# EAGLE library part WM_BC832 (library parts_v25)
Micro BLE 5 Module: Nordic nRF52832 SoC with chip antenna and castellated pins
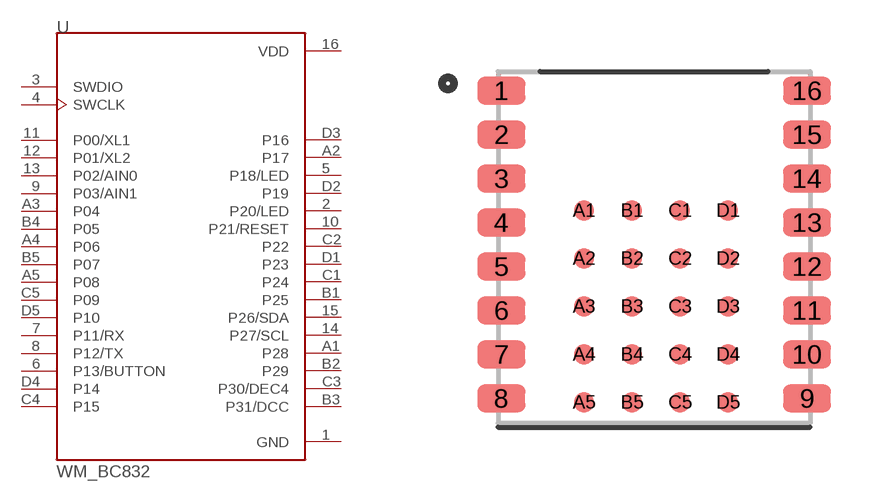
[diagram p4: symbol with the pads of XCVR_BC832; footprint XCVR_BC832]

Designator prefix U

## WM_BC832 (AVAILABILITY: Unavailable; DESCRIPTION: Micro BLE 5 Module: Nordic nRF52832 SoC with chip antenna and castellated pins; MF: Fanstel Corp.; MP: BC832; PACKAGE: SMD-16 Fanstel; PRICE: None)  [XCVR_BC832]
1  GND  pwr
2  P20/LED
3  SWDIO
4  SWCLK
5  P18/LED
6  P13/BUTTON
7  P11/RX
8  P12/TX
9  P03/AIN1
10  P21/RESET
11  P00/XL1
12  P01/XL2
13  P02/AIN0
14  P27/SCL
15  P26/SDA
16  VDD  pwr
A1  P28
A2  P17
A3  P04
A4  P06
A5  P08
B1  P25
B2  P29
B3  P31/DCC
B4  P05
B5  P07
C1  P24
C2  P22
C3  P30/DEC4
C4  P15
C5  P09
D1  P23
D2  P19
D3  P16
D4  P14
D5  P10

## Footprint XCVR_BC832 (pad centres in mm)
smd 1.19 x 0.69: 1 -3.82,3.918; 2 -3.82,2.818; 3 -3.82,1.718; 4 -3.82,0.618; 5 -3.82,-0.482; 6 -3.82,-1.582; 7 -3.82,-2.682; 8 -3.82,-3.782; 9 3.82,-3.782; 10 3.82,-2.682; 11 3.82,-1.582; 12 3.82,-0.482; 13 3.82,0.618; 14 3.82,1.718; 15 3.82,2.818; 16 3.82,3.918
smd 0.5 x 0.5: A1 -1.75,0.919; A2 -1.75,-0.281; A3 -1.75,-1.481; A4 -1.75,-2.681; A5 -1.75,-3.881; B1 -0.55,0.919; B2 -0.55,-0.281; B3 -0.55,-1.481; B4 -0.55,-2.681; B5 -0.55,-3.881; C1 0.65,0.919; C2 0.65,-0.281; C3 0.65,-1.481; C4 0.65,-2.681; C5 0.65,-3.881; D1 1.85,0.919; D2 1.85,-0.281; D3 1.85,-1.481; D4 1.85,-2.681; D5 1.85,-3.881